# EAGLE library part LTC6802G-1 (library SolarJackets)
ltc6802G-1
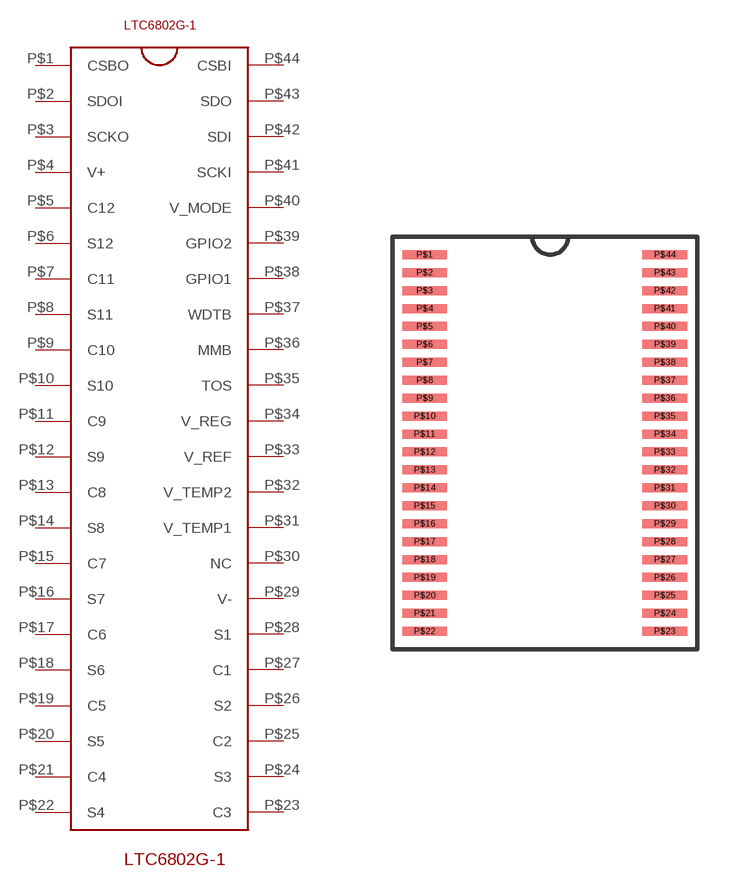
[diagram p4: symbol with the pads of LTC6802G-1; footprint LTC6802G-1]

Designator prefix -

## LTC6802G-1  [LTC6802G-1]
P$1  CSBO  out
P$2  SDOI  in
P$3  SCKO  out
P$4  V+  pwr
P$5  C12
P$6  S12
P$7  C11
P$8  S11
P$9  C10
P$10  S10
P$11  C9
P$12  S9
P$13  C8
P$14  S8
P$15  C7
P$16  S7
P$17  C6
P$18  S6
P$19  C5
P$20  S5
P$21  C4
P$22  S4
P$23  C3
P$24  S3
P$25  C2
P$26  S2
P$27  C1
P$28  S1
P$29  V-
P$30  NC  nc
P$31  V_TEMP1
P$32  V_TEMP2
P$33  V_REF
P$34  V_REG
P$35  TOS
P$36  MMB
P$37  WDTB
P$38  GPIO1
P$39  GPIO2
P$40  V_MODE  pwr
P$41  SCKI  in
P$42  SDI  in
P$43  SDO  out
P$44  CSBI  in

## Footprint LTC6802G-1 (pad centres in mm)
smd 1.25 x 0.25: P$1 -3.33,4.55; P$2 -3.33,4.05; P$3 -3.33,3.55; P$4 -3.33,3.05; P$5 -3.33,2.55; P$6 -3.33,2.05; P$7 -3.33,1.55; P$8 -3.33,1.05; P$9 -3.33,0.55; P$10 -3.33,0.05; P$11 -3.33,-0.45; P$12 -3.33,-0.95; P$13 -3.33,-1.45; P$14 -3.33,-1.95; P$15 -3.33,-2.45; P$16 -3.33,-2.95; P$17 -3.33,-3.45; P$18 -3.33,-3.95; P$19 -3.33,-4.45; P$20 -3.33,-4.95; P$21 -3.33,-5.45; P$22 -3.33,-5.95; P$23 3.37,-5.95; P$24 3.37,-5.45; P$25 3.37,-4.95; P$26 3.37,-4.45; P$27 3.37,-3.95; P$28 3.37,-3.45; P$29 3.37,-2.95; P$30 3.37,-2.45; P$31 3.37,-1.95; P$32 3.37,-1.45; P$33 3.37,-0.95; P$34 3.37,-0.45; P$35 3.37,0.05; P$36 3.37,0.55; P$37 3.37,1.05; P$38 3.37,1.55; P$39 3.37,2.05; P$40 3.37,2.55; P$41 3.37,3.05; P$42 3.37,3.55; P$43 3.37,4.05; P$44 3.37,4.55